# Altium integrated library MC33269ST-3.3T3G.IntLib: 1 symbol
Pins are listed as number, name and electrical type; pins without a type are passive.

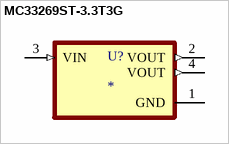
[diagram p0: symbol MC33269ST-3.3T3G]

## MC33269ST-3.3T3G
designator U?
Voltage Regulators, LDO, 3.3V ADJ 800mA | ON Semiconductor MC33269ST-3.3T3G; SnapEDA_Link: https://www.snapeda.com/parts/MC33269ST-3.3T3G/Onsemi/view-part/?ref=snap; Package: SOT-223-4 ON Semiconductor; Value: *; MF: ON Semiconductor; MP: MC33269ST-3.3T3G; Check_prices: https://www.snapeda.com/parts/MC33269ST-3.3T3G/Onsemi/view-part/?ref=eda
footprint SOT230P700X175-4N
pins: 1 GND (power), 2 VOUT (out), 3 VIN (in), 4 VOUT (out)